# EAGLE library part S6058 (library diode)
Si PIN Quadrant photodiode Source: http://sales.hamamatsu.com/assets/pdf/parts_S/S7379-01_etc.pdf
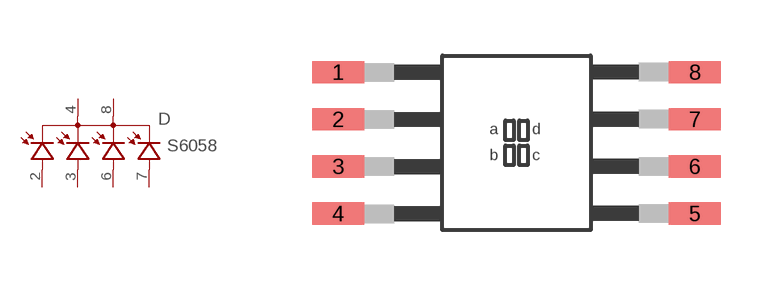
[diagram p9: symbol with the pads of S6058; footprint S6058]

Designator prefix D

## S6058  [S6058]
2  AA  pas
3  AB  pas
4  C1  pas
6  AC  pas
7  AD  pas
8  C2  pas

## Footprint S6058 (pad centres in mm)
Si PIN Quadrant photodiode Source: http://sales.hamamatsu.com/assets/pdf/parts_S/S7379-01_etc.pdf
smd 1.4 x 0.6: 1 -4.805,1.905; 2 -4.805,0.635; 3 -4.805,-0.635; 4 -4.805,-1.905; 5 4.805,-1.905; 6 4.805,-0.635; 7 4.805,0.635; 8 4.805,1.905